# Altium schematic symbol library ATMEGA8A-AU.SchLib: 1 symbol
Pins are listed as number, name and electrical type; pins without a type are passive.

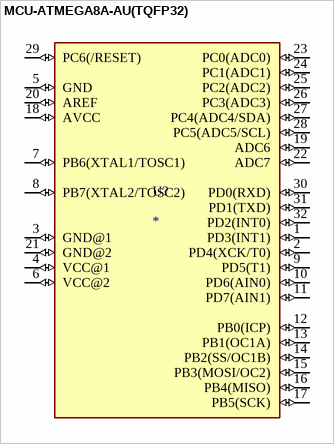
[diagram p0: symbol MCU-ATMEGA8A-AU(TQFP32)]

## MCU-ATMEGA8A-AU(TQFP32)
designator U?
AVR AVRÂ® ATmega Microcontroller IC 8-Bit 16MHz 8KB (4K x 16) FLASH; MF: Microchip; MP: ATMEGA8A-AU; Value: *; Purchase-URL: https://pricing.snapeda.com/search/part/ATMEGA8A-AU/?ref=eda; Check_prices: https://www.snapeda.com/parts/ATMEGA8A-AU/Microchip/view-part/49714/?ref=eda; SnapEDA_Link: https://www.snapeda.com/parts/ATMEGA8A-AU/Microchip/view-part/49714/?ref=snap; Package: TQFP-32 Microchip; Availability: Good; Price: None
footprint TQFP32-0.8-7X7MM
pins: 1 PD3(INT1) (io), 2 PD4(XCK/T0) (io), 3 GND@1 (io), 4 VCC@1 (io), 5 GND (io), 6 VCC@2 (io), 7 PB6(XTAL1/TOSC1) (io), 8 PB7(XTAL2/TOSC2) (io), 9 PD5(T1) (io), 10 PD6(AIN0) (io), 11 PD7(AIN1) (io), 12 PB0(ICP) (io), 13 PB1(OC1A) (io), 14 PB2(SS/OC1B) (io), 15 PB3(MOSI/OC2) (io), 16 PB4(MISO) (io), 17 PB5(SCK) (io), 18 AVCC (io), 19 ADC6 (io), 20 AREF (io), 21 GND@2 (io), 22 ADC7 (io), 23 PC0(ADC0) (io), 24 PC1(ADC1) (io), 25 PC2(ADC2) (io), 26 PC3(ADC3) (io), 27 PC4(ADC4/SDA) (io), 28 PC5(ADC5/SCL) (io), 29 PC6(/RESET) (io), 30 PD0(RXD) (io), 31 PD1(TXD) (io), 32 PD2(INT0) (io)